# Altium footprint library Resistors.PcbLib: 9 footprints
Each footprint in its own frame and in the unit in brackets; x right, y up, seen from the top. Pads: shape width x height; smd on the part's side, far side on the other; paste and mask are expansions set on the pad; w line width, h text height; cw(c..) or ccw(c..) is an arc to the next point about the centre after c.
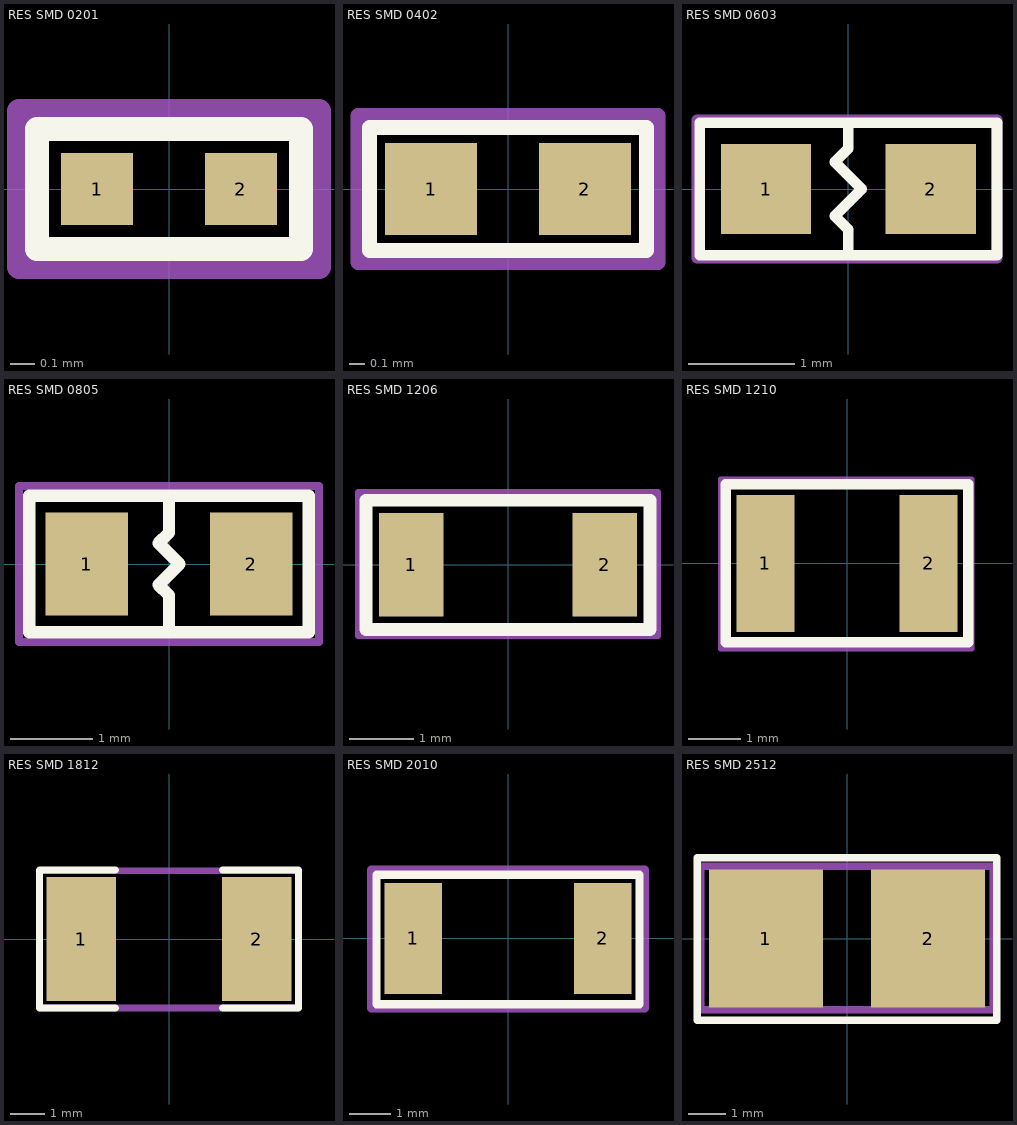
[diagram p0: the footprints below, top view; thin cyan lines are the x and y axes]

## RES SMD 0201 [mm]
height 0.23
pads (2):
  rect 0.3x0.3 smd mask+0.05: 1(-0.3,0) 2(0.3,0)
Top Overlay:
  lines w0.1: -0.55,-0.25 -0.55,0.25 0.55,0.25 0.55,-0.25 -0.55,-0.25
Assembly Notes:
  lines w0.1: -0.625,-0.325 0.625,-0.325 0.625,0.325 -0.625,0.325 -0.625,-0.325
  text ".Designator" at -1.749,-0.117 h0.35
3D body "chip_0201_r.STEP": height 0.22, standoff -0.02, extent -0.3,-0.15 0.3,0.15

## RES SMD 0402 [mm]
height 0.35
pads (2):
  rect 0.6x0.6 smd mask+0.05: 1(-0.5,0) 2(0.5,0)
Top Overlay:
  lines w0.1: -0.9,-0.4 0.9,-0.4 0.9,0.4 -0.9,0.4 -0.9,-0.4
Assembly Notes:
  lines w0.1: -0.975,-0.475 -0.975,0.475 0.975,0.475 0.975,-0.475 -0.975,-0.475
  text ".Designator" at -1.749,-0.117 h0.35
3D body "chip_0402_r.STEP": height 0.34, standoff -0.02, extent -0.525,-0.25 0.475,0.25

## RES SMD 0603 [mm]
height 0.45
pads (2):
  rect 0.85x0.85 smd: 1(-0.775,0) 2(0.775,0)
Top Overlay:
  lines w0.1: 0,-0.625 0,-0.381 -0.127,-0.254 0.127,0 -0.127,0.254 0,0.381 0,0.625 ; -1.4,-0.625 1.4,-0.625 1.4,0.625 -1.4,0.625 -1.4,-0.625
Assembly Notes:
  lines w0.1: -1.425,-0.65 -1.425,0.65 1.4,0.65 1.4,-0.65 -1.425,-0.65
  text ".Designator" at -2.499,-0.167 h0.5
3D body "chip_0603_r.STEP": height 0.44, standoff -0.02, extent -0.8,-0.4 0.8,0.4

## RES SMD 0805 [mm]
height 0.45
pads (2):
  rect 1x1.25 smd: 1(-1,0) 2(1,0)
Top Overlay:
  lines w0.15: 0,-0.825 0,-0.381 -0.127,-0.254 0.127,0 -0.127,0.254 0,0.381 0,0.825 ; -1.702,-0.828 1.702,-0.828 1.702,0.831 -1.702,0.831 -1.702,-0.828
Assembly Notes:
  lines w0.1: -1.825,-0.95 -1.825,0.95 1.825,0.95 1.825,-0.95 -1.825,-0.95
  text ".Designator" at -2.499,-0.167 h0.5
3D body "chip_0805_r.STEP": height 0.48, standoff 0.02, extent -1,-0.6 1,0.6

## RES SMD 1206 [mm]
height 0.6
pads (2):
  rect 1x1.6 smd: 1(-1.5,0) 2(1.5,0)
Top Overlay:
  lines w0.2: -2.2,-1 -2.2,1 2.2,1 2.2,-1 -2.2,-1
Assembly Notes:
  lines w0.1: -2.325,-1.1 2.325,-1.1 2.325,1.125 -2.325,1.125 -2.325,-1.1
  text ".Designator" at -3.749,-0.25 h0.75
3D body "chip_1206_r.STEP": height 0.47, standoff -0.03, extent -1.65,-0.8 1.55,0.8

## RES SMD 1210 [mm]
pads (2):
  rect 1.1x2.6 smd: 1(-1.55,0) 2(1.55,0)
Top Overlay:
  lines w0.2: -2.3,-1.5 -2.3,1.5 2.3,1.5 2.3,-1.5 -2.3,-1.5
Assembly Notes:
  lines w0.1: -2.4,-1.625 2.375,-1.625 2.375,1.6 -2.4,1.6 -2.4,-1.625
  text ".Designator" at -3.749,-0.25 h0.75
3D body "User Library-R_1210.STEP": height 0.6, standoff 0, extent -1.6,-1.25 1.6,1.25

## RES SMD 1812 [mm]
height 1
pads (2):
  rect 2x3.6 smd: 1(-2.54,0) 2(2.54,0)
Top Overlay:
  lines w0.2: -1.549,-2 -3.75,-2 -3.75,2 -1.549,2 ; 1.549,-2 3.75,-2 3.75,2 1.549,2
Assembly Notes:
  lines w0.2: -3.75,-2 -3.75,1.975 3.75,1.975 3.75,-2 -3.75,-2
  text ".Designator" at -3.749,-0.25 h0.75
3D body "RESC4532(1812).STEP": height 0.7, standoff 0, extent -2.25,-1.6 2.25,1.6

## RES SMD 2010 [mm]
height 0.55
pads (2):
  rect 1.4x2.7 smd: 1(-2.3,0) 2(2.3,0)
Top Overlay:
  lines w0.2: -3.2,-1.6 -3.2,1.55 3.2,1.55 3.2,-1.6 -3.2,-1.6
Assembly Notes:
  lines w0.2: -3.325,-1.7 3.325,-1.7 3.325,1.675 -3.325,1.675 -3.325,-1.7
  text ".Designator" at -3.749,-0.25 h0.75
3D body "User Library-R_2010.STEP": height 0.6, standoff 0, extent -2.5,-1.25 2.5,1.25

## RES SMD 2512 [mm]
height 0.55
pads (2):
  rect 3.05x3.68 smd: 1(-2.16,0) 2(2.16,0)
Top Overlay:
  lines w0.2: -4,-2.175 4,-2.175 4,2.15 -4,2.15 -4,-2.175
Assembly Notes:
  lines w0.2: -3.9,-1.9 -3.9,1.925 3.9,1.925 3.9,-1.9 -3.9,-1.9
  text ".Designator" at -3.749,-0.25 h0.75
3D body "chip_2512_r.STEP": height 0.52, standoff -0.04, extent -3.175,-1.6 3.175,1.6